# Altium footprint library SamacSys.PcbLib: 9 footprints
Each footprint in its own frame and in the unit in brackets; x right, y up, seen from the top. Pads: shape width x height; smd on the part's side, far side on the other; paste and mask are expansions set on the pad; w line width, h text height; cw(c..) or ccw(c..) is an arc to the next point about the centre after c.
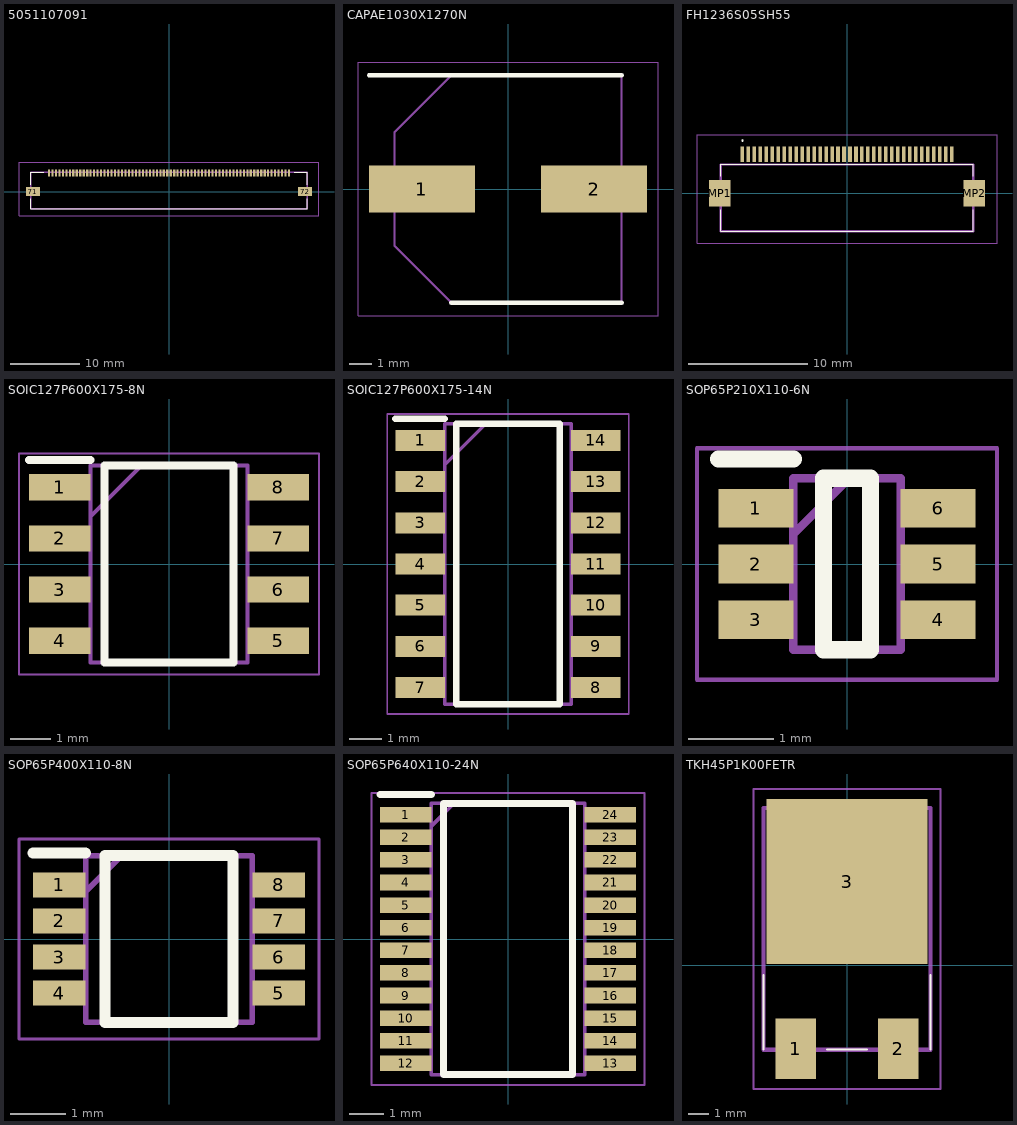
[diagram p0: the footprints below, top view; thin cyan lines are the x and y axes]

## 5051107091 [mm]
pads (72):
  rect 0.3x1 smd: 1(-17.25,2.7) 2(-16.75,2.7) 3(-16.25,2.7) 4(-15.75,2.7) 5(-15.25,2.7) 6(-14.75,2.7) 7(-14.25,2.7) 8(-13.75,2.7) 9(-13.25,2.7) 10(-12.75,2.7) 11(-12.25,2.7) 12(-11.75,2.7) 13(-11.25,2.7) 14(-10.75,2.7) 15(-10.25,2.7) 16(-9.75,2.7) 17(-9.25,2.7) 18(-8.75,2.7) 19(-8.25,2.7) 20(-7.75,2.7) 21(-7.25,2.7) 22(-6.75,2.7) 23(-6.25,2.7) 24(-5.75,2.7) 25(-5.25,2.7) 26(-4.75,2.7) 27(-4.25,2.7) 28(-3.75,2.7) 29(-3.25,2.7) 30(-2.75,2.7) 31(-2.25,2.7) 32(-1.75,2.7) 33(-1.25,2.7) 34(-0.75,2.7) 35(-0.25,2.7) 36(0.25,2.7) 37(0.75,2.7) 38(1.25,2.7) 39(1.75,2.7) 40(2.25,2.7) 41(2.75,2.7) 42(3.25,2.7) 43(3.75,2.7) 44(4.25,2.7) 45(4.75,2.7) 46(5.25,2.7) 47(5.75,2.7) 48(6.25,2.7) 49(6.75,2.7) 50(7.25,2.7) 51(7.75,2.7) 52(8.25,2.7) 53(8.75,2.7) 54(9.25,2.7) 55(9.75,2.7) 56(10.25,2.7) 57(10.75,2.7) 58(11.25,2.7) 59(11.75,2.7) 60(12.25,2.7) 61(12.75,2.7) 62(13.25,2.7) 63(13.75,2.7) 64(14.25,2.7) 65(14.75,2.7) 66(15.25,2.7) 67(15.75,2.7) 68(16.25,2.7) 69(16.75,2.7) 70(17.25,2.7)
  rect 2x1.3 smd: 71(-19.55,0) 72(19.55,0)
Top Overlay:
  lines w0.1: -19.85,-1 -19.85,-2.2 -19.85,-2.45 19.85,-2.45 19.85,-1 ; -19.85,1 -19.85,2.8 -18,2.8 ; 18,2.8 19.85,2.8 19.85,1
Mechanical 13:
  lines w0.2: -19.85,-2.45 19.85,-2.45 19.85,2.8 -19.85,2.8 -19.85,-2.45
Mechanical 15:
  lines w0.1: -21.55,-3.45 21.55,-3.45 21.55,4.2 -21.55,4.2 -21.55,-3.45
3D body "5051107091.stp": height 1.88, standoff -0.02, extent -20.25,-2.33 20.25,2.97

## CAPAE1030X1270N [mm]
pads (2):
  rect 4.8x2.15 smd: 1(-3.9,0) 2(3.9,0)
Top Overlay:
  lines w0.2: -6.3,5.15 5.15,5.15 ; -2.575,-5.15 5.15,-5.15
Mechanical 13:
  lines w0.1: -5.15,-2.575 -2.575,-5.15 5.15,-5.15 5.15,5.15 -2.575,5.15 -5.15,2.575 -5.15,-2.575
Mechanical 15:
  lines w0.05: -6.8,-5.75 -6.8,5.75 6.8,5.75 6.8,-5.75 -6.8,-5.75
3D body "A768MS107M1JLAE027.stp": height 12.7, standoff 0, extent -5.6,-5.25 5.6,5.25

## FH1236S05SH55 [mm]
pads (38):
  rect 0.3x1.3 smd: 1(-8.75,3.25) 2(-8.25,3.25) 3(-7.75,3.25) 4(-7.25,3.25) 5(-6.75,3.25) 6(-6.25,3.25) 7(-5.75,3.25) 8(-5.25,3.25) 9(-4.75,3.25) 10(-4.25,3.25) 11(-3.75,3.25) 12(-3.25,3.25) 13(-2.75,3.25) 14(-2.25,3.25) 15(-1.75,3.25) 16(-1.25,3.25) 17(-0.75,3.25) 18(-0.25,3.25) 19(0.25,3.25) 20(0.75,3.25) 21(1.25,3.25) 22(1.75,3.25) 23(2.25,3.25) 24(2.75,3.25) 25(3.25,3.25) 26(3.75,3.25) 27(4.25,3.25) 28(4.75,3.25) 29(5.25,3.25) 30(5.75,3.25) 31(6.25,3.25) 32(6.75,3.25) 33(7.25,3.25) 34(7.75,3.25) 35(8.25,3.25) 36(8.75,3.25)
  rect 1.8x2.2 smd: MP1(-10.65,0) MP2(10.65,0)
Top Overlay:
  lines w0.1: -10.55,-1.4 -10.55,-3.2 10.55,-3.2 10.55,-1.4 ; -10.55,1.4 -10.55,2.4 10.55,2.4 10.55,1.4 ; -8.8,4.4 ccw(c-8.75,4.4) -8.7,4.4 ccw(c-8.75,4.4) -8.8,4.4
Mechanical 13:
  lines w0.2: -10.55,-3.2 10.55,-3.2 10.55,2.4 -10.55,2.4 -10.55,-3.2
Mechanical 15:
  lines w0.1: -12.55,-4.2 12.55,-4.2 12.55,4.9 -12.55,4.9 -12.55,-4.2

## SOIC127P600X175-8N [mm]
pads (8):
  rect 1.525x0.65 smd: 1(-2.712,1.905) 2(-2.712,0.635) 3(-2.712,-0.635) 4(-2.712,-1.905) 5(2.712,-1.905) 6(2.712,-0.635) 7(2.712,0.635) 8(2.712,1.905)
Top Overlay:
  lines w0.2: -3.475,2.58 -1.95,2.58 ; -1.6,-2.45 -1.6,2.45 1.6,2.45 1.6,-2.45 -1.6,-2.45
Mechanical 13:
  lines w0.1: -1.95,1.18 -0.68,2.45 ; -1.95,-2.45 -1.95,2.45 1.95,2.45 1.95,-2.45 -1.95,-2.45
Mechanical 15:
  lines w0.05: -3.725,-2.75 -3.725,2.75 3.725,2.75 3.725,-2.75 -3.725,-2.75
3D body "NE555DR.stp": height 1.75, standoff 0, extent -3,-2.45 3,2.45

## SOIC127P600X175-14N [mm]
pads (14):
  rect 1.525x0.65 smd: 1(-2.712,3.81) 2(-2.712,2.54) 3(-2.712,1.27) 4(-2.712,0) 5(-2.712,-1.27) 6(-2.712,-2.54) 7(-2.712,-3.81) 8(2.712,-3.81) 9(2.712,-2.54) 10(2.712,-1.27) 11(2.712,0) 12(2.712,1.27) 13(2.712,2.54) 14(2.712,3.81)
Top Overlay:
  lines w0.2: -3.475,4.485 -1.95,4.485 ; -1.6,-4.325 1.6,-4.325 1.6,4.325 -1.6,4.325 -1.6,-4.325
Mechanical 13:
  lines w0.1: -1.95,3.055 -0.68,4.325 ; -1.95,-4.325 1.95,-4.325 1.95,4.325 -1.95,4.325 -1.95,-4.325
Mechanical 15:
  lines w0.05: -3.725,-4.625 3.725,-4.625 3.725,4.625 -3.725,4.625 -3.725,-4.625
3D body "TLV9044IDR.stp": height 1.75, standoff 0, extent -3.013,-4.315 3.013,4.335

## SOP65P210X110-6N [mm]
pads (6):
  rect 0.875x0.45 smd: 1(-1.062,0.65) 2(-1.062,0) 3(-1.062,-0.65) 4(1.062,-0.65) 5(1.062,0) 6(1.062,0.65)
Top Overlay:
  lines w0.2: -1.5,1.225 -0.625,1.225 ; -0.275,-1 -0.275,1 0.275,1 0.275,-1 -0.275,-1
Mechanical 13:
  lines w0.1: -0.625,0.35 0.025,1 ; -0.625,-1 -0.625,1 0.625,1 0.625,-1 -0.625,-1
Mechanical 15:
  lines w0.05: -1.75,-1.35 -1.75,1.35 1.75,1.35 1.75,-1.35 -1.75,-1.35

## SOP65P400X110-8N [mm]
pads (8):
  rect 0.95x0.45 smd: 1(-1.975,0.975) 2(-1.975,0.325) 3(-1.975,-0.325) 4(-1.975,-0.975) 5(1.975,-0.975) 6(1.975,-0.325) 7(1.975,0.325) 8(1.975,0.975)
Top Overlay:
  lines w0.2: -2.45,1.55 -1.5,1.55 ; -1.15,-1.5 1.15,-1.5 1.15,1.5 -1.15,1.5 -1.15,-1.5
Mechanical 13:
  lines w0.1: -1.5,0.85 -0.85,1.5 ; -1.5,-1.5 1.5,-1.5 1.5,1.5 -1.5,1.5 -1.5,-1.5
Mechanical 15:
  lines w0.05: -2.7,-1.8 2.7,-1.8 2.7,1.8 -2.7,1.8 -2.7,-1.8
3D body "74LVC1G53DP,125.stp": height 1.1, standoff 0, extent -2,-1.5 2,1.5

## SOP65P640X110-24N [mm]
pads (24):
  rect 1.475x0.45 smd: 1(-2.938,3.575) 2(-2.938,2.925) 3(-2.938,2.275) 4(-2.938,1.625) 5(-2.938,0.975) 6(-2.938,0.325) 7(-2.938,-0.325) 8(-2.938,-0.975) 9(-2.938,-1.625) 10(-2.938,-2.275) 11(-2.938,-2.925) 12(-2.938,-3.575) 13(2.938,-3.575) 14(2.938,-2.925) 15(2.938,-2.275) 16(2.938,-1.625) 17(2.938,-0.975) 18(2.938,-0.325) 19(2.938,0.325) 20(2.938,0.975) 21(2.938,1.625) 22(2.938,2.275) 23(2.938,2.925) 24(2.938,3.575)
Top Overlay:
  lines w0.2: -3.675,4.15 -2.2,4.15 ; -1.85,-3.9 -1.85,3.9 1.85,3.9 1.85,-3.9 -1.85,-3.9
Mechanical 13:
  lines w0.1: -2.2,3.25 -1.55,3.9 ; -2.2,-3.9 -2.2,3.9 2.2,3.9 2.2,-3.9 -2.2,-3.9
Mechanical 15:
  lines w0.05: -3.925,-4.2 -3.925,4.2 3.925,4.2 3.925,-4.2 -3.925,-4.2
3D body "74HC4067PW,118.stp": height 1.1, standoff 0, extent -3.2,-3.9 3.2,3.9

## TKH45P1K00FETR [mm]
pads (3):
  rect 2x3 smd: 1(-2.54,-4.15) 2(2.54,-4.15)
  rect 8x8.2 smd: 3(0,4.15)
Top Overlay:
  lines w0.1: -4.15,-4.2 -4.15,-0.5 ; -1,-4.2 1,-4.2 ; 4.15,-4.2 4.15,-0.5
Mechanical 13:
  lines w0.2: -4.15,-4.2 -4.15,7.8 4.15,7.8 4.15,-4.2 -4.15,-4.2
Mechanical 15:
  lines w0.1: -4.65,-6.15 -4.65,8.75 4.65,8.75 4.65,-6.15 -4.65,-6.15
3D body "TKH45P1K00FE-TR.stp": height 1.01, standoff 0, extent -4.15,-5.45 4.15,7.8